# EAGLE library part 87531-0001 (library con-molex)
USB Connector
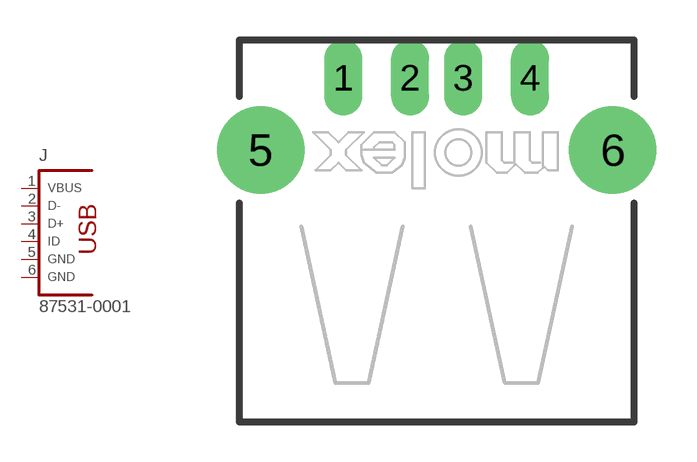
[diagram p74: symbol with the pads of 87531-0001; footprint 87531-0001]

Designator prefix J

## 87531-0001  [87531-0001]
1  1  pas
2  2  pas
3  3  pas
4  4  pas
5  5  pas
6  6  pas

## Footprint 87531-0001 (pad centres in mm)
USB connector
drill 0.914 long: 1 -3.5,2.71; 2 -1,2.71; 3 1,2.71; 4 3.5,2.71
drill 2.261: 5 -6.6,0; 6 6.6,0